# EAGLE library part LPS331AP (library pixhawk2)
LPS331AP MEMS pressure sensor, 260-1260 mbar absolute digital output barometer
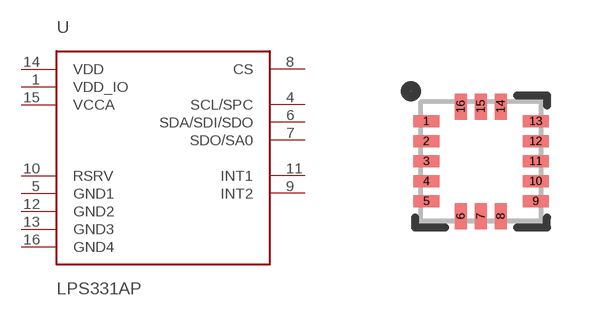
[diagram p73: symbol with the pads of LGA-16L; footprint LGA-16L]

Designator prefix -

## LPS331AP (DATASHEET: http://www.st.com/internet/com/TECHNICAL_RESOURCES/TECHNICAL_LITERATURE/DATASHEET/DM00036196.pdf; LINK: http://www.st.com/jp/analog/product/251601.jsp; MFGPN: LPS331AP)  [LGA-16L]
1  VDD_IO
4  SCL/SPC
5  GND1
6  SDA/SDI/SDO
7  SDO/SA0
8  CS
9  INT2
10  RSRV
11  INT1
12  GND2
13  GND3
14  VDD
15  VCCA
16  GND4

## Footprint LGA-16L (pad centres in mm)
smd 0.65 x 0.3: 1 -1.37,1; 2 -1.37,0.5; 3 -1.37,0; 4 -1.37,-0.5; 5 -1.37,-1; 9 1.37,-1; 10 1.37,-0.5; 11 1.37,0; 12 1.37,0.5; 13 1.37,1
smd 0.3 x 0.65: 6 -0.5,-1.37; 7 0,-1.37; 8 0.5,-1.37; 14 0.5,1.37; 15 0,1.37; 16 -0.5,1.37